# Altium integrated library Analog Devices.IntLib: 1 symbol
Pins are listed as number, name and electrical type; pins without a type are passive.

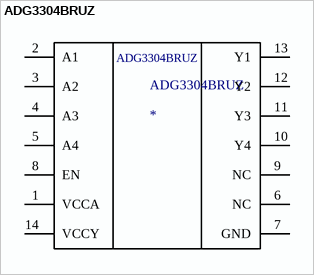
[diagram p0: symbol ADG3304BRUZ]

## ADG3304BRUZ
designator ADG3304BRUZ
footprint TSSOP-14
pins: 1 VCCA, 2 A1, 3 A2, 4 A3, 5 A4, 6 NC, 7 GND, 8 EN, 9 NC, 10 Y4, 11 Y3, 12 Y2, 13 Y1, 14 VCCY